# Altium footprint library Конденсаторы электролитические.PcbLib: 21 footprints (part 1 of 2)
Each footprint in its own frame and in the unit in brackets; x right, y up, seen from the top. Pads: shape width x height; smd on the part's side, far side on the other; paste and mask are expansions set on the pad; w line width, h text height; cw(c..) or ccw(c..) is an arc to the next point about the centre after c.
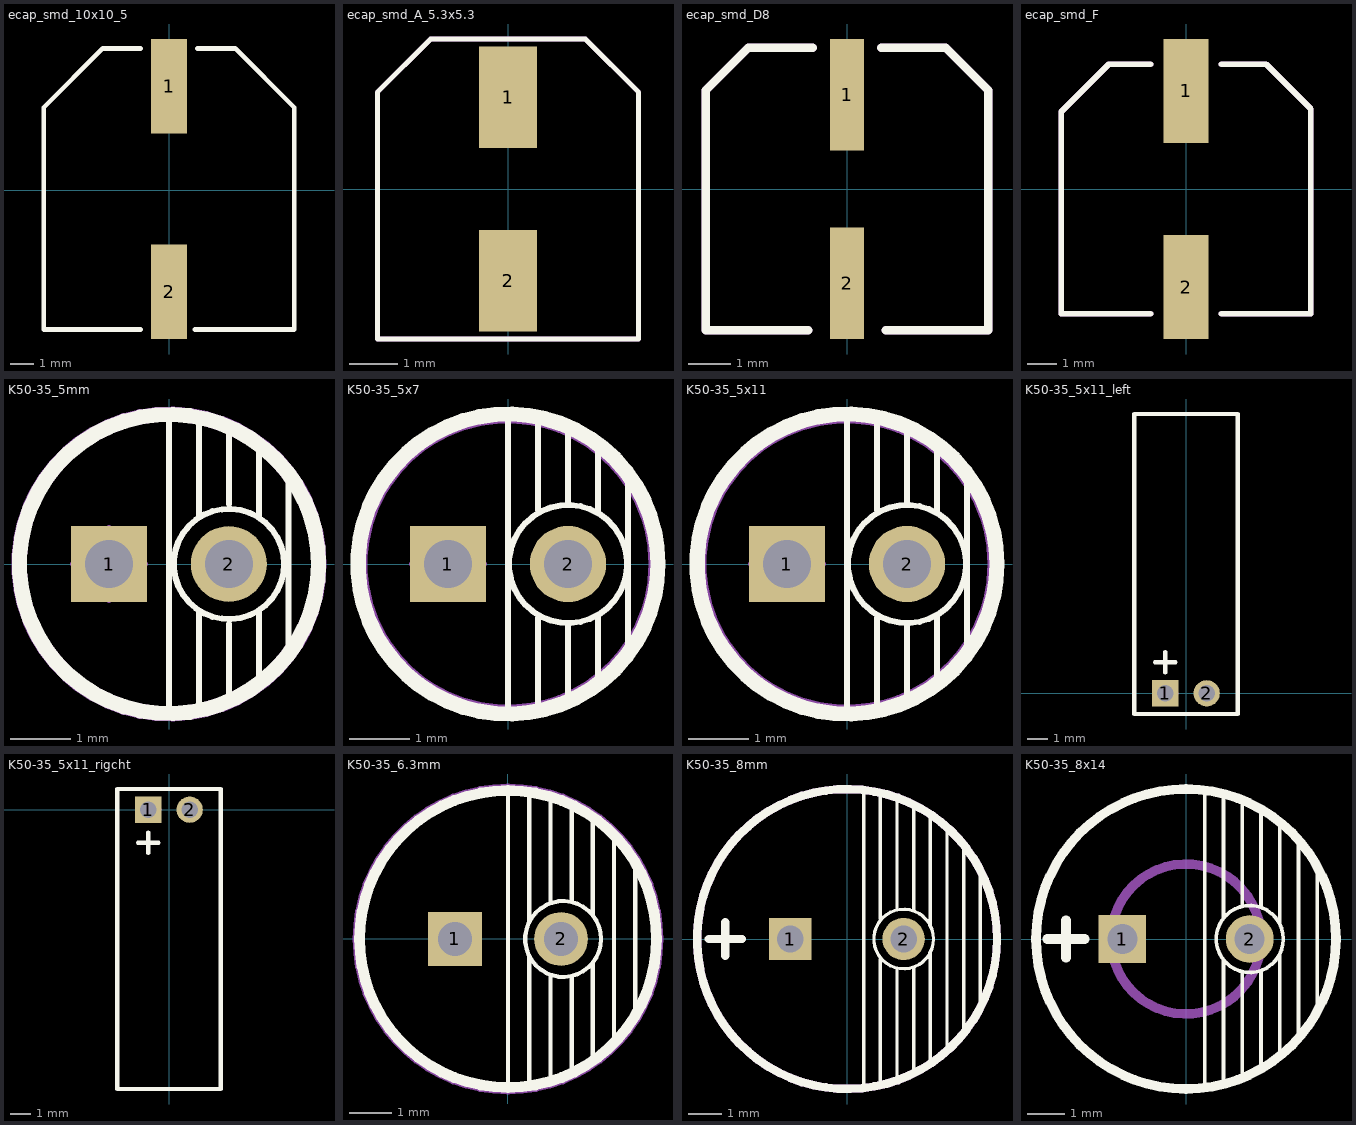
[diagram p0: the footprints below, top view; thin cyan lines are the x and y axes]

## ecap_smd_10x10_5 [mm]
pads (2):
  rect 1.524x4 smd: 1(0,4.4) 2(0,-4.3)
Top Overlay:
  lines w0.2: -1.2,-5.9 -5.3,-5.9 -5.3,3.5 -2.8,6 -2.75,6 -1.2,6 ; 1.1,-5.9 5.3,-5.9 5.3,3.5 2.8,6 1.2,6
3D body "ECAP_SMD_10x10x10-1.STEP": height 10.5, standoff 0, extent -5.25,-5.899 5.25,5.901

## ecap_smd_A_5.3x5.3 [mm]
pads (2):
  rect 1.2x2.1 smd: 1(0,1.9) 2(0,-1.9)
Top Overlay:
  lines w0.1: -2.7,-3.1 -2.7,2 -1.6,3.1 1.6,3.1 2.7,2 2.7,-3.1 -2.7,-3.1
ASSEMBLY_TOP:
  lines w0.1: -2.7,-3.1 -2.7,2 -1.6,3.1 1.6,3.1 2.7,2 2.7,-3.1 -2.7,-3.1
  text ".Designator" at -2.7,-0.4 h1.52
3D body "capae-5.3x5.3h5.5.step": height 5.5, standoff 0, extent -2.65,-2.95 2.65,2.95

## ecap_smd_B [mm]

## ecap_smd_C [mm]

## ecap_smd_D [mm]

## ecap_smd_D8 [mm]
pads (2):
  rect 0.8x2.6 smd: 1(0,2.2) 2(0,-2.2)
Top Overlay:
  lines w0.2: -0.9,-3.3 -3.3,-3.3 -3.3,2.3 -2.3,3.3 -0.8,3.3 ; 0.8,3.3 2.3,3.3 3.3,2.3 3.3,-3.3 0.9,-3.3
ASSEMBLY_TOP:
  lines w0.2: -0.9,-3.3 -3.3,-3.3 -3.3,2.3 -2.3,3.3 -0.8,3.3 ; 0.8,3.3 2.3,3.3 3.3,2.3 3.3,-3.3 0.9,-3.3
  text ".Designator" at -2.5,-0.3 h1.52
3D body "ECAP_SMD_D8.stp": height 7.4, standoff -0.3, extent -3.3,-3.65 3.3,3.65

## ecap_smd_E [mm]

## ecap_smd_F [mm]
pads (2):
  rect 1.524x3.5 smd: 1(0,3.3) 2(0,-3.3)
Top Overlay:
  lines w0.2: -1.2,-4.2 -4.2,-4.2 -4.2,2.6 -2.6,4.2 -1.2,4.2 ; 1.2,-4.2 4.2,-4.2 4.2,2.7 2.7,4.2 1.2,4.2
ASSEMBLY_TOP:
  lines w0.2: -1.2,-4.2 -4.2,-4.2 -4.2,2.6 -2.6,4.2 -1.2,4.2 ; 1.2,-4.2 4.2,-4.2 4.2,2.7 2.7,4.2 1.2,4.2
  text ".Designator" at 0,-0.3 h1.52
3D body "ECAP_SMD_F.stp": height 9.9, standoff -0.3, extent -4.05,-4.85 4.25,4.85

## K50-35_5mm [mm]
pads (2):
  rect 1.27x1.27 hole 0.8: 1(-1,0)
  round 1.27 hole 0.8: 2(1,0)
Top Overlay:
  circle w0.1: c1,0 r0.922
  circle w0.254: c0,0 r2.5
  lines w0.1: 0,-2.5 0,2.5 ; 0.5,-2.5 0.5,-0.8 ; 0.5,0.8 0.5,2.4 ; 1,-2.3 1,-1 ; 1,1 1,2.3 ; 1.5,-2 1.5,-0.8 ; 1.5,0.8 1.5,2 ; 2,-1.5 2,1.4
ASSEMBLY_TOP:
  circle w0.254: c0,0 r2.506
  lines w0.1: -1.6,0 -0.4,0 ; -1,-0.6 -1,0.6
  text ".Designator" at -0.2,-0.4 h1.52

## K50-35_5x7 [mm]
pads (2):
  rect 1.27x1.27 hole 0.8: 1(-1,0)
  round 1.27 hole 0.8: 2(1,0)
Top Overlay:
  circle w0.1: c1,0 r0.985
  circle w0.254: c0,0 r2.5
  lines w0.1: 0,-2.5 0,0 0,2.5 ; 0.5,-2.5 0.5,-0.9 ; 0.5,0.9 0.5,2.4 ; 1,-2.3 1,-1 ; 1,1 1,2.3 ; 1.5,-1.9 1.5,-0.9 ; 1.5,0.9 1.5,2 ; 2,-1.4 2,1.4
ASSEMBLY_TOP:
  circle w0.254: c0,0 r2.47
  lines w0.1: -1.6,0 -0.4,0 ; -1,-0.5 -1,0.5
  text ".Designator" at -0.8,-0.5 h1.52
3D body "User Library-Cap electrolitic radial 5x7.STEP": height 7.3, standoff -1.2, extent -2.499,-2.497 2.499,2.5

## K50-35_5x11 [mm]
pads (2):
  rect 1.27x1.27 hole 0.8: 1(-1,0)
  round 1.27 hole 0.8: 2(1,0)
Top Overlay:
  circle w0.254: c0,0 r2.5
  circle w0.1: c1,0 r0.985
  lines w0.1: 0,-2.5 0,0 0,2.5 ; 0.5,-2.5 0.5,-0.9 ; 0.5,0.9 0.5,2.4 ; 1,-2.3 1,-1 ; 1,1 1,2.3 ; 1.5,-1.9 1.5,-0.9 ; 1.5,0.9 1.5,2 ; 2,-1.4 2,1.4
ASSEMBLY_TOP:
  circle w0.254: c0,0 r2.47
  lines w0.1: -1.6,0 -0.4,0 ; -1,-0.5 -1,0.5
  text ".Designator" at -0.8,-0.5 h1.52
3D body "User Library-Cap electrolitic radial 5x11.STEP": height 11, standoff -1.5, extent -2.499,-2.497 2.499,2.5

## K50-35_5x11_left [mm]
pads (2):
  rect 1.27x1.27 hole 0.8: 1(-1,0)
  round 1.27 hole 0.8: 2(1,0)
Top Overlay:
  lines w0.2: -1.5,1.5 -0.5,1.5 ; -1,1 -1,2 ; -2.5,-1 -2.5,13.5 2.5,13.5 2.5,-1 -2.5,-1
ASSEMBLY_TOP:
  lines w0.1: -1.6,0 -0.4,0 ; -1,-0.5 -1,0.5
  text ".Designator" at -0.8,-0.5 h1.52
3D body "User Library-Cap electrolitic radial 5x11.a3d (левый).stp": height 5, standoff -2.5, extent -2.499,-0.25 2.499,13.5

## K50-35_5x11_rigcht [mm]
pads (2):
  rect 1.27x1.27 hole 0.8: 1(-1,0)
  round 1.27 hole 0.8: 2(1,0)
Top Overlay:
  lines w0.2: -1.5,-1.6 -0.5,-1.6 ; -1,-2.1 -1,-1.1 ; -2.5,-13.5 -2.5,1 2.5,1 2.5,-13.5 -2.5,-13.5
ASSEMBLY_TOP:
  lines w0.1: -1.6,0 -0.4,0 ; -1,-0.5 -1,0.5
  text ".Designator" at -0.8,-0.5 h1.52
3D body "User Library-Cap electrolitic radial 5x11.a3d (правый).stp": height 4.5, standoff -3, extent -2.498,-13.449 2.5,0.3

## K50-35_6.3mm [mm]
pads (2):
  rect 1.27x1.27 hole 0.8: 1(-1.25,0)
  round 1.27 hole 0.8: 2(1.25,0)
Top Overlay:
  circle w0.254: c0,0 r3.5
  circle w0.1: c1.3,0 r0.894
  lines w0.1: 0,-3.5 0,3.4 ; 0.5,-3.5 0.5,-0.4 ; 0.5,0.4 0.5,3.5 ; 1,-3.3 1,-0.9 ; 1,0.9 1,3.3 ; 1.5,-3.1 1.5,-0.9 ; 1.5,0.9 1.5,3.1 ; 2,-2.9 2,-0.6 ; 2,0.6 2,2.8 ; 2.5,-2.4 2.5,2.4 ; 3,-1.8 3,1.7
ASSEMBLY_TOP:
  circle w0.254: c0,0 r3.536
  lines w0.1: -1.7,0 -0.7,0 ; -1.2,-0.5 -1.2,0.5
  text ".Designator" at -0.2,-0.4 h1.52
3D body "Cap electrolitic radial 6,3x12.STEP": height 12.8, standoff -0.7, extent -3.149,-3.149 3.149,3.15

## K50-35_8mm [mm]
pads (2):
  rect 1.27x1.27 hole 0.8: 1(-1.7,0)
  round 1.27 hole 0.8: 2(1.7,0)
Top Overlay:
  circle w0.1: c1.7,0 r0.894
  circle w0.254: c0,0 r4.5
  lines w0.1: 0.5,-4.5 0.5,-3.4 0.5,4.4 ; 1,-4.4 1,-0.6 ; 1,0.6 1,4.3 ; 1.5,-4.3 1.5,-0.9 ; 1.5,0.9 1.5,4.2 ; 2,-4 2,-0.9 ; 2,0.9 2,4 ; 2.5,-3.8 2.5,-0.4 ; 2.5,0.4 2.5,3.8 ; 3,-3.4 3,3.3 ; 3.5,-2.9 3.5,2.7 ; 4,-2 4,2.1
  lines w0.254: -4.15,0 -3.15,0 ; -3.65,-0.5 -3.65,0.5
ASSEMBLY_TOP:
  circle w0.254: c0,0 r4.5
  lines w0.1: -2.2,0 -1.2,0 ; -1.7,-0.5 -1.7,0.5
  text ".Designator" at -0.2,-0.4 h1.52
3D body "Cap electrolitic radial 8x12.STEP": height 12.8, standoff -0.7, extent -3.998,-4 3.999,3.999

## K50-35_8x14 [mm]
pads (2):
  rect 1.27x1.27 hole 0.8: 1(-1.7,0)
  round 1.27 hole 0.8: 2(1.7,0)
Top Overlay:
  circle w0.254: c0,0 r4
  circle w0.1: c1.7,0 r0.894
  lines w0.1: 0.5,-4 0.5,-3.4 0.5,3.9 ; 1,-3.9 1,-0.6 ; 1,0.6 1,3.9 ; 1.5,-3.7 1.5,-0.9 ; 1.5,0.9 1.5,3.7 ; 2,-3.5 2,-0.9 ; 2,0.9 2,3.4 ; 2.5,-3.2 2.5,-0.4 ; 2.5,0.4 2.5,3.1 ; 3,-2.7 3,2.6 ; 3.5,-2 3.5,2
  lines w0.254: -3.7,0 -2.7,0 ; -3.2,-0.5 -3.2,0.5
ASSEMBLY_TOP:
  circle w0.254: c0,0 r2
  lines w0.1: -2.2,0 -1.2,0 ; -1.7,-0.5 -1.7,0.5
  text ".Designator" at -0.2,-0.4 h1.52
3D body "User Library-Cap electrolitic radial 8x14.STEP": height 14.8, standoff -0.7, extent -3.998,-4 3.999,3.999